# EAGLE library part 74X245-NON-INVERTING-TRANSCEIVER (library FlashPCB_ICs)
SN74HCT245 (74x265) - IC TXRX NON-INVERT 5.5V 20SOIC Technical Specifications: Transceiver, Non-Inverting 1 Element 8 Bit per Element 3-State Output 20-SOIC Logic Type: Transceiver, Non-Inverting Elements: 1 Bits Per Element: 8 Output Type: 3-State Output Current: 6mA Supply Voltage: 4.5V~5.5V Component Search: SN74HCT245DW <https://www.flashpcb.com/components> Datasheet: SNx4HCT245 Octal Bus Transceivers With 3-State Outputs datasheet (Rev. H) <https://www.ti.com/lit/ds/symlink/sn74hct245.pdf?HQS=dis-dk-null-digikeymode-dsf-pf-null-wwe&ts=1683802888466&ref_url=https%253A%252F%252Fwww.ti.com%252Fgeneral%252Fdocs%252Fsuppproductinfo.tsp%253FdistId%253D10%2526gotoUrl%253Dhttps%253A%252F%252Fwww.ti.com%252Flit%252Fgpn%252Fsn74hct245>
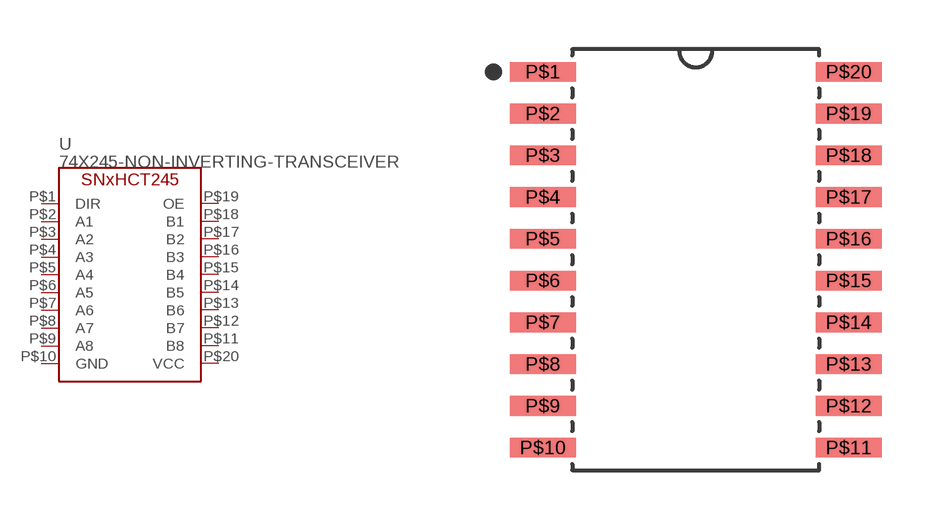
[diagram p2: symbol with the pads of SOIC-20-295MIL-7.5MM; footprint SOIC-20-295MIL-7.5MM]

Designator prefix U

## 74X245-NON-INVERTING-TRANSCEIVERDW  [SOIC-20-295MIL-7.5MM]
P$1  DIR
P$2  A1
P$3  A2
P$4  A3
P$5  A4
P$6  A5
P$7  A6
P$8  A7
P$9  A8
P$10  GND
P$11  B8
P$12  B7
P$13  B6
P$14  B5
P$15  B4
P$16  B3
P$17  B2
P$18  B1
P$19  OE
P$20  VCC

## Footprint SOIC-20-295MIL-7.5MM (pad centres in mm)
smd 2 x 0.6: P$1 -4.65,5.715; P$2 -4.65,4.445; P$3 -4.65,3.175; P$4 -4.65,1.905; P$5 -4.65,0.635; P$6 -4.65,-0.635; P$7 -4.65,-1.905; P$8 -4.65,-3.175; P$9 -4.65,-4.445; P$10 -4.65,-5.715; P$11 4.65,-5.715; P$12 4.65,-4.445; P$13 4.65,-3.175; P$14 4.65,-1.905; P$15 4.65,-0.635; P$16 4.65,0.635; P$17 4.65,1.905; P$18 4.65,3.175; P$19 4.65,4.445; P$20 4.65,5.715